# Altium integrated library AD5260BRUZ50 .IntLib: 1 symbol
Pins are listed as number, name and electrical type; pins without a type are passive.

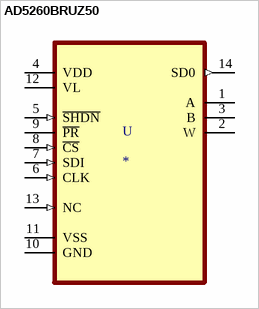
[diagram p0: symbol AD5260BRUZ50]

## AD5260BRUZ50
designator U
Digital Potentiometer 50k Ohm 1 Circuit 256 Taps SPI Interface 14-TSSOP; MP: AD5260BRUZ50; MF: Analog Devices; Availability: Unavailable; Value: *; Package: TSSOP-14 Analog Devices; Price: None; SnapEDA_Link: https://www.snapeda.com/parts/AD5260BRUZ50/Analog%20Devices%20Inc./view-part/239168/?ref=snap
footprint SOP65P640X120-14N
pins: 1 A, 2 W, 3 B, 4 VDD (power), 5 ~{SHDN} (in), 6 CLK (in), 7 SDI (in), 8 ~{CS} (in), 9 ~{PR}, 10 GND, 11 VSS (power), 12 VL (power), 13 NC (in), 14 SD0 (out)